# EAGLE library part MCP2200 (library MCP2200)
USB to serial converter by micreochip
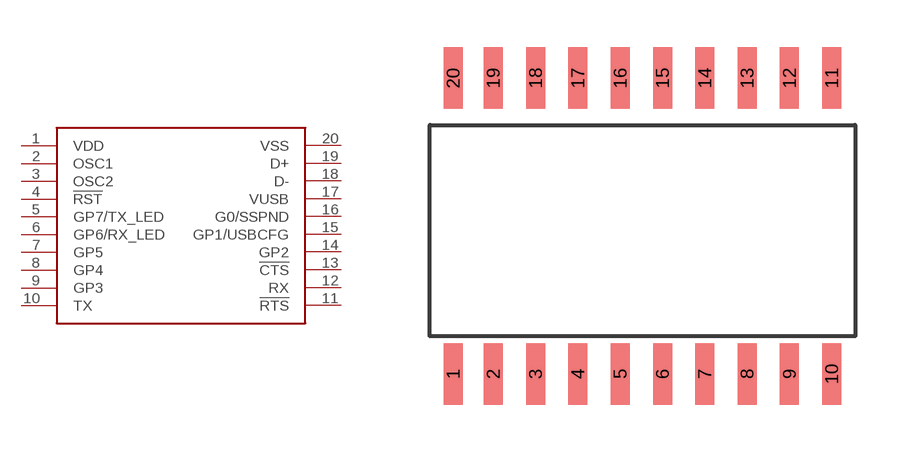
[diagram p0: symbol with the pads of MCP2200; footprint MCP2200]

Designator prefix -

## MCP2200SOIC  [MCP2200]
1  VDD
2  OSC1
3  OSC2
4  !RST
5  GP7/TX_LED
6  GP6/RX_LED
7  GP5
8  GP4
9  GP3
10  TX
11  !RTS
12  RX
13  !CTS
14  GP2
15  GP1/USBCFG
16  G0/SSPND
17  VUSB
18  D-
19  D+
20  VSS

## Footprint MCP2200 (pad centres in mm)
This is a simple soic footprint for MCP2200 by microchip
smd 0.6 x 1.95: 1 -0.6,0.145; 2 0.67,0.145; 3 2.01,0.145; 4 3.35,0.145; 5 4.69,0.145; 6 6.03,0.145; 7 7.37,0.145; 8 8.71,0.145; 9 10.05,0.145; 10 11.39,0.145; 11 11.39,9.525; 12 10.05,9.525; 13 8.71,9.525; 14 7.37,9.525; 15 6.03,9.525; 16 4.69,9.525; 17 3.35,9.525; 18 2.01,9.525; 19 0.67,9.525; 20 -0.6,9.525